# EAGLE library part ESP8266 (library esp8266)
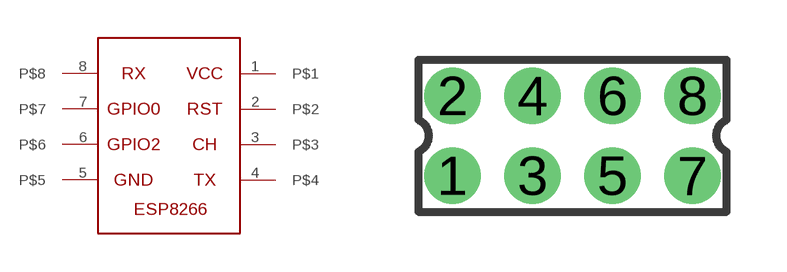
[diagram p0: symbol with the pads of 332-08; footprint 332-08]

Designator prefix -

## ESP8266  [332-08]
1  P$1
2  P$2
3  P$3
4  P$4
5  P$5
6  P$6
7  P$7
8  P$8

## Footprint 332-08 (pad centres in mm)
8 Pin - 2mm Dual Row Source: www.mpe-connector.de / garry_shortform_2012.pdf
drill 0.9 pad 1.27: 1 -3,-1; 2 -3,1; 3 -1,-1; 4 -1,1; 5 1,-1; 6 1,1; 7 3,-1; 8 3,1